# Altium footprint library IV-11.PcbLib: 1 footprints
Each footprint in its own frame and in the unit in brackets; x right, y up, seen from the top. Pads: shape width x height; smd on the part's side, far side on the other; paste and mask are expansions set on the pad; w line width, h text height; cw(c..) or ccw(c..) is an arc to the next point about the centre after c.
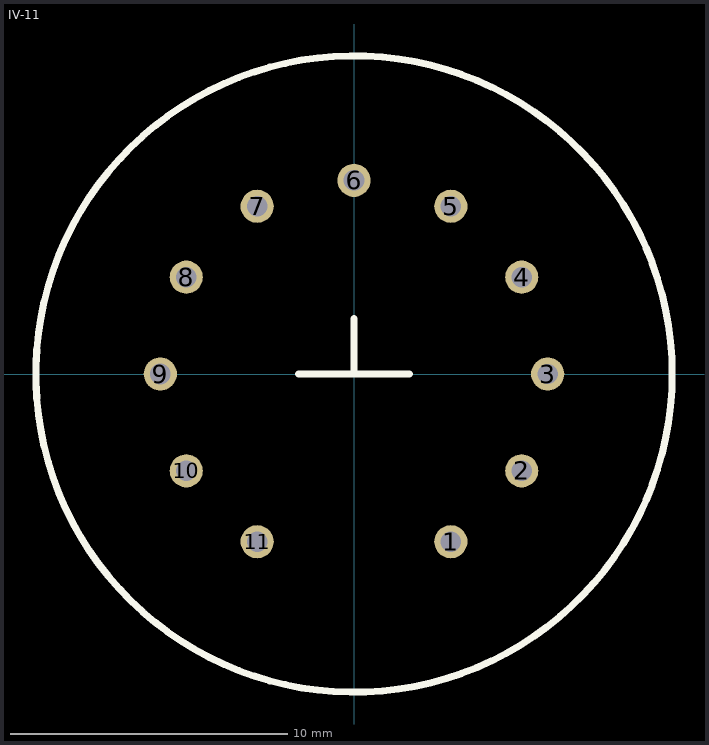
[diagram p0: the footprint, top view; thin cyan lines are the x and y axes]

## IV-11 [mm]
pads (11):
  round 1.2 hole 0.73: 1(3.5,-6.062) 2(6.062,-3.5) 3(7,0)
  round 1.2 hole 0.75: 4(6.062,3.5) 5(3.5,6.062) 6(0,7) 7(-3.5,6.062) 8(-6.062,3.5) 9(-7,0) 10(-6.062,-3.5) 11(-3.5,-6.062)
Top Overlay:
  circle w0.254: c0,0 r11.5
  lines w0.254: -2,0 2,0 ; 0,0 0,2
3D body: height 50, standoff 0, extent -10,-10 10,10